# EAGLE library part CP2102N-A01 (library MTAES_V2_UniqueParts)
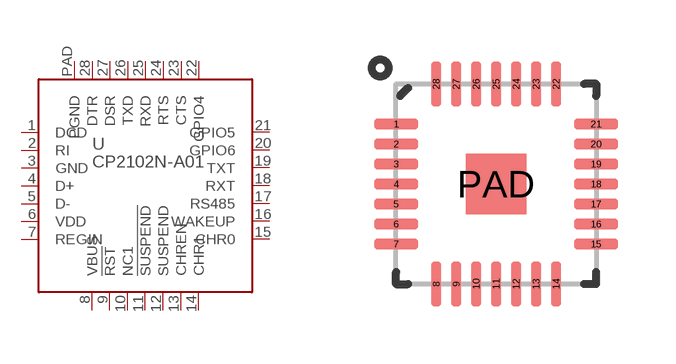
[diagram p5: symbol with the pads of VQFN-28; footprint VQFN-28]

Designator prefix U

## CP2102N-A01  [VQFN-28]
1  DCD
2  RI
3  GND
4  D+
5  D-
6  VDD
7  REGIN
8  VBUS
9  !RST
10  NC1
11  !SUSPEND
12  SUSPEND
13  CHREN
14  CHR1
15  CHR0
16  WAKEUP
17  RS485
18  RXT
19  TXT
20  GPIO6
21  GPIO5
22  GPIO4
23  CTS
24  RTS
25  RXD
26  TXD
27  DSR
28  DTR
PAD  PGND

## Footprint VQFN-28 (pad centres in mm)
smd 1.1 x 0.25: 1 -2.5,1.5; 2 -2.5,1; 3 -2.5,0.5; 4 -2.5,0; 5 -2.5,-0.5; 6 -2.5,-1; 7 -2.5,-1.5; 15 2.5,-1.5; 16 2.5,-1; 17 2.5,-0.5; 18 2.5,0; 19 2.5,0.5; 20 2.5,1; 21 2.5,1.5
smd 0.25 x 1.1: 8 -1.5,-2.5; 9 -1,-2.5; 10 -0.5,-2.5; 11 0,-2.5; 12 0.5,-2.5; 13 1,-2.5; 14 1.5,-2.5; 22 1.5,2.5; 23 1,2.5; 24 0.5,2.5; 25 0,2.5; 26 -0.5,2.5; 27 -1,2.5; 28 -1.5,2.5
smd 1.524 x 1.524: PAD 0,0